# Altium footprint library Pattern No3d 20090609.PcbLib: 323 footprints (part 6 of 22)
Each footprint in its own frame and in the unit in brackets; x right, y up, seen from the top. Pads: shape width x height; smd on the part's side, far side on the other; paste and mask are expansions set on the pad; w line width, h text height; cw(c..) or ccw(c..) is an arc to the next point about the centre after c.
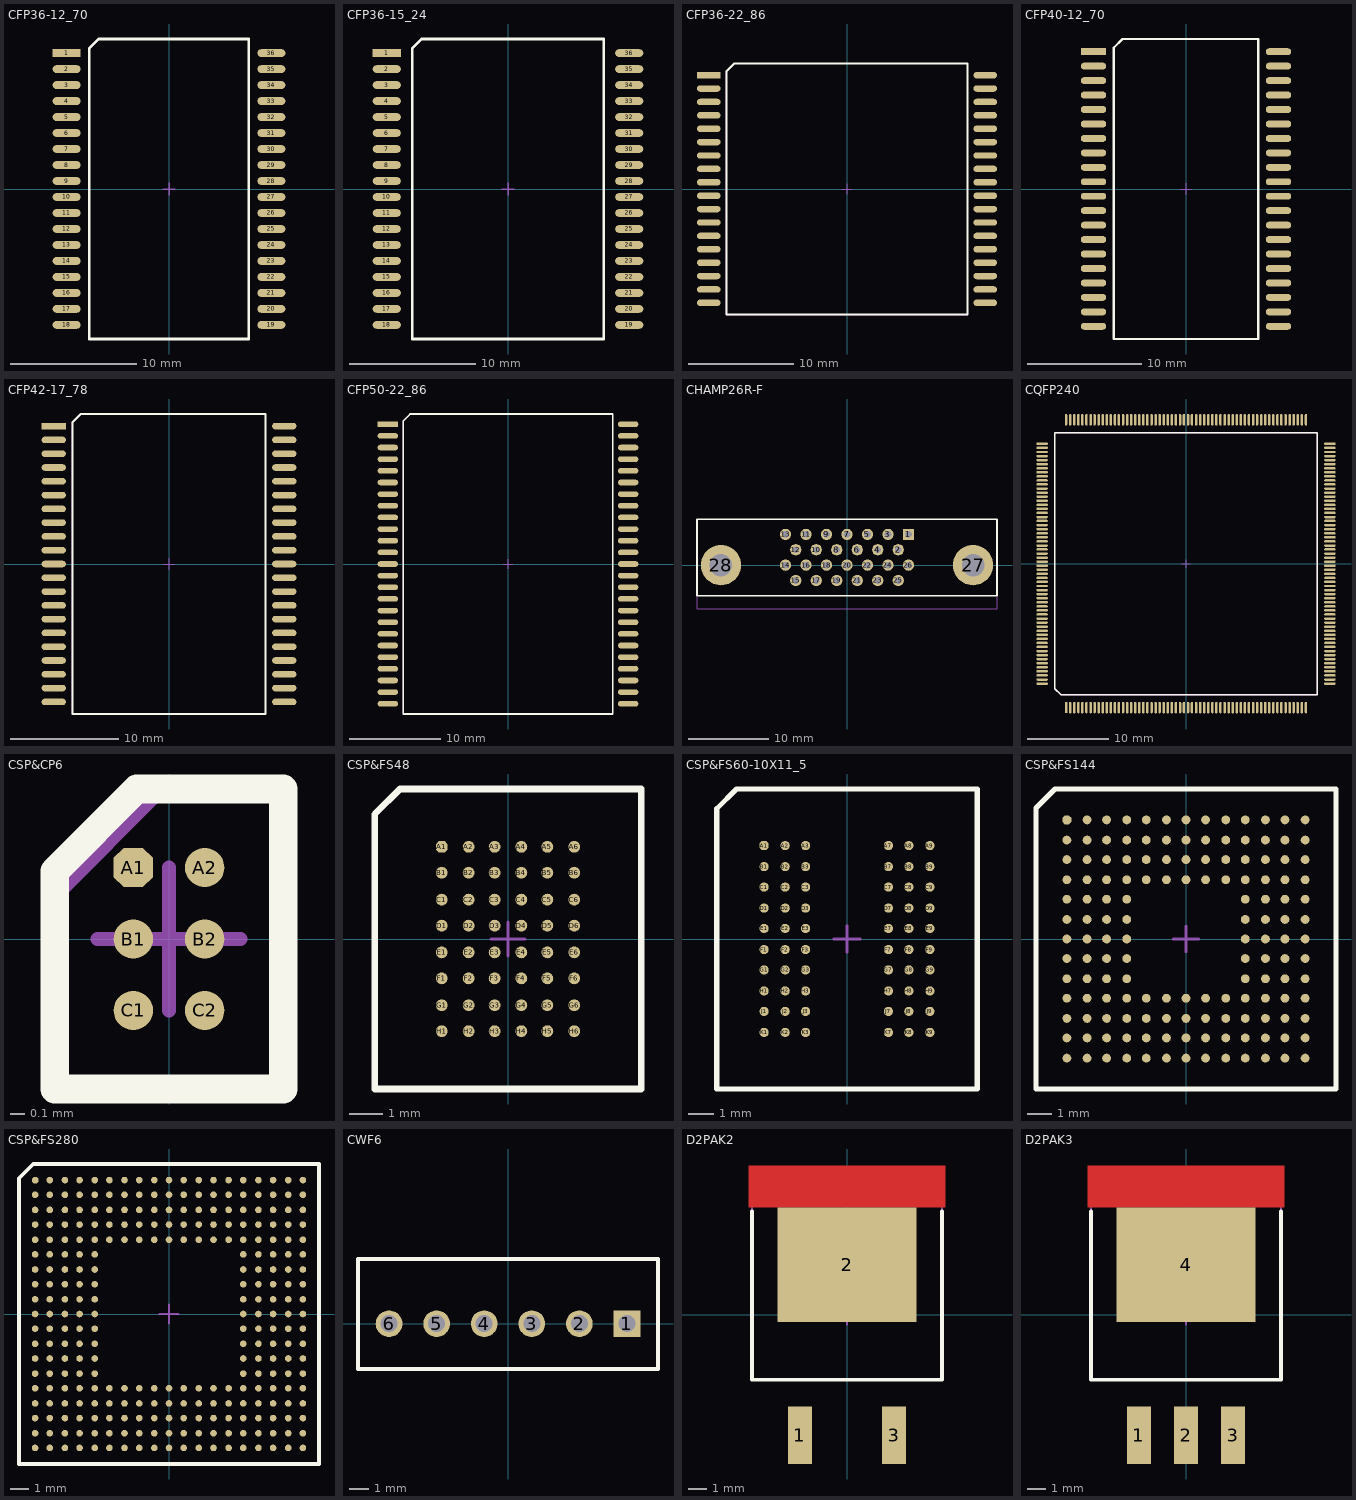
[diagram p5: the footprints below, top view; thin cyan lines are the x and y axes]

## CFP36-12_70 [mil] "IPC-SM-782A SMD Land Patterns.pdf (MO-020)"
pads (36):
  rect 88x24 smd mask+4: 1(-320,425)
  oval 88x24 smd mask+4: 2(-320,375) 3(-320,325) 4(-320,275) 5(-320,225) 6(-320,175) 7(-320,125) 8(-320,75) 9(-320,25) 10(-320,-25) 11(-320,-75) 12(-320,-125) 13(-320,-175) 14(-320,-225) 15(-320,-275) 16(-320,-325) 17(-320,-375) 18(-320,-425) 19(320,-425) 20(320,-375) 21(320,-325) 22(320,-275) 23(320,-225) 24(320,-175) 25(320,-125) 26(320,-75) 27(320,-25) 28(320,25) 29(320,75) 30(320,125) 31(320,175) 32(320,225) 33(320,275) 34(320,325) 35(320,375) 36(320,425)
Top Overlay:
  lines w8: -250,-469 -250,439 -220,469 250,469 250,-469 -250,-469
Mechanical 1:
  lines w4: -250,-469 -250,439 -220,469 250,469 250,-469 -250,-469
Mechanical 15:
  lines w4: -20,0 20,0 ; 0,-20 0,20

## CFP36-15_24 [mil] "IPC-SM-782A SMD Land Patterns.pdf (MO-021)"
pads (36):
  rect 88x24 smd mask+4: 1(-379,425)
  oval 88x24 smd mask+4: 2(-379,375) 3(-379,325) 4(-379,275) 5(-379,225) 6(-379,175) 7(-379,125) 8(-379,75) 9(-379,25) 10(-379,-25) 11(-379,-75) 12(-379,-125) 13(-379,-175) 14(-379,-225) 15(-379,-275) 16(-379,-325) 17(-379,-375) 18(-379,-425) 19(379,-425) 20(379,-375) 21(379,-325) 22(379,-275) 23(379,-225) 24(379,-175) 25(379,-125) 26(379,-75) 27(379,-25) 28(379,25) 29(379,75) 30(379,125) 31(379,175) 32(379,225) 33(379,275) 34(379,325) 35(379,375) 36(379,425)
Top Overlay:
  lines w8: -300,-469 300,-469 300,469 -270,469 -300,439 -300,-469
Mechanical 1:
  lines w4: -300,-469 300,-469 300,469 -270,469 -300,439 -300,-469
Mechanical 15:
  lines w4: -20,0 20,0 ; 0,-20 0,20

## CFP36-22_86 [mil] "IPC-SM-782A SMD Land Patterns.pdf (MO-023)"
pads (36):
  rect 88x24 smd mask+4: 1(-516,425)
  oval 88x24 smd mask+4: 2(-516,375) 3(-516,325) 4(-516,275) 5(-516,225) 6(-516,175) 7(-516,125) 8(-516,75) 9(-516,25) 10(-516,-25) 11(-516,-75) 12(-516,-125) 13(-516,-175) 14(-516,-225) 15(-516,-275) 16(-516,-325) 17(-516,-375) 18(-516,-425) 19(516,-425) 20(516,-375) 21(516,-325) 22(516,-275) 23(516,-225) 24(516,-175) 25(516,-125) 26(516,-75) 27(516,-25) 28(516,25) 29(516,75) 30(516,125) 31(516,175) 32(516,225) 33(516,275) 34(516,325) 35(516,375) 36(516,425)
Top Overlay:
  lines w8: -450,-469 -450,439 -420,469 450,469 450,-469 -450,-469
Mechanical 1:
  lines w4: -450,-469 -450,439 -420,469 450,469 450,-469 -450,-469
Mechanical 15:
  lines w4: -20,0 20,0 ; 0,-20 0,20

## CFP40-12_70 [mil] "IPC-SM-782A SMD Land Patterns.pdf (MO-020)"
pads (40):
  rect 88x24 smd mask+4: 1(-320,475)
  oval 88x24 smd mask+4: 2(-320,425) 3(-320,375) 4(-320,325) 5(-320,275) 6(-320,225) 7(-320,175) 8(-320,125) 9(-320,75) 10(-320,25) 11(-320,-25) 12(-320,-75) 13(-320,-125) 14(-320,-175) 15(-320,-225) 16(-320,-275) 17(-320,-325) 18(-320,-375) 19(-320,-425) 20(-320,-475) 21(320,-475) 22(320,-425) 23(320,-375) 24(320,-325) 25(320,-275) 26(320,-225) 27(320,-175) 28(320,-125) 29(320,-75) 30(320,-25) 31(320,25) 32(320,75) 33(320,125) 34(320,175) 35(320,225) 36(320,275) 37(320,325) 38(320,375) 39(320,425) 40(320,475)
Top Overlay:
  lines w8: -250,-519 -250,489 -220,519 250,519 250,-519 -250,-519
Mechanical 1:
  lines w4: -250,-519 -250,489 -220,519 250,519 250,-519 -250,-519
Mechanical 15:
  lines w4: -20,0 20,0 ; 0,-20 0,20

## CFP42-17_78 [mil] "IPC-SM-782A SMD Land Patterns.pdf (MO-022)"
pads (42):
  rect 88x24 smd mask+4: 1(-418,500)
  oval 88x24 smd mask+4: 2(-418,450) 3(-418,400) 4(-418,350) 5(-418,300) 6(-418,250) 7(-418,200) 8(-418,150) 9(-418,100) 10(-418,50) 11(-418,0) 12(-418,-50) 13(-418,-100) 14(-418,-150) 15(-418,-200) 16(-418,-250) 17(-418,-300) 18(-418,-350) 19(-418,-400) 20(-418,-450) 21(-418,-500) 22(418,-500) 23(418,-450) 24(418,-400) 25(418,-350) 26(418,-300) 27(418,-250) 28(418,-200) 29(418,-150) 30(418,-100) 31(418,-50) 32(418,0) 33(418,50) 34(418,100) 35(418,150) 36(418,200) 37(418,250) 38(418,300) 39(418,350) 40(418,400) 41(418,450) 42(418,500)
Top Overlay:
  lines w8: -350,-544 -350,514 -320,544 350,544 350,-544 -350,-544
Mechanical 1:
  lines w4: -350,-544 -350,514 -320,544 350,544 350,-544 -350,-544
Mechanical 15:
  lines w4: -20,0 20,0 ; 0,-20 0,20

## CFP50-22_86 [mil] "IPC-SM-782A SMD Land Patterns.pdf (MO-023)"
pads (50):
  rect 88x24 smd mask+4: 1(-516,600)
  oval 88x24 smd mask+4: 2(-516,550) 3(-516,500) 4(-516,450) 5(-516,400) 6(-516,350) 7(-516,300) 8(-516,250) 9(-516,200) 10(-516,150) 11(-516,100) 12(-516,50) 13(-516,0) 14(-516,-50) 15(-516,-100) 16(-516,-150) 17(-516,-200) 18(-516,-250) 19(-516,-300) 20(-516,-350) 21(-516,-400) 22(-516,-450) 23(-516,-500) 24(-516,-550) 25(-516,-600) 26(516,-600) 27(516,-550) 28(516,-500) 29(516,-450) 30(516,-400) 31(516,-350) 32(516,-300) 33(516,-250) 34(516,-200) 35(516,-150) 36(516,-100) 37(516,-50) 38(516,0) 39(516,50) 40(516,100) 41(516,150) 42(516,200) 43(516,250) 44(516,300) 45(516,350) 46(516,400) 47(516,450) 48(516,500) 49(516,550) 50(516,600)
Top Overlay:
  lines w8: -450,-644 450,-644 450,644 -420,644 -450,614 -450,-644
Mechanical 1:
  lines w4: -450,-644 450,-644 450,644 -420,644 -450,614 -450,-644
Mechanical 15:
  lines w4: -20,0 20,0 ; 0,-20 0,20

## CHAMP26R-F [mil] "http://docs-europe.electrocomponents.com/webdocs/002a/0900766b8002ae15.pdf (60 01 026 51)"
pads (28):
  rect 55x55 hole 32 mask+4: 1(300,150)
  round 55 hole 32 mask+4: 2(250,75) 3(200,150) 4(150,75) 5(100,150) 6(50,75) 7(0,150) 8(-50,75) 9(-100,150) 10(-150,75) 11(-200,150) 12(-250,75) 13(-300,150) 14(-300,0) 15(-250,-75) 16(-200,0) 17(-150,-75) 18(-100,0) 19(-50,-75) 20(0,0) 21(50,-75) 22(100,0) 23(150,-75) 24(200,0) 25(250,-75) 26(300,0)
  round 197 hole 110 mask+4: 27(615,0) 28(-615,0)
Top Overlay:
  lines w8: -732,-149 732,-149 732,224 -732,224 -732,-149
Mechanical 1:
  lines w4: -732,-213 732,-213 732,224 -732,224 -732,-213

## CQFP240 [mil] "http://www.analog.com/static/imported-files/packages/5795754713199QS240_HSD.pdf"
pads (240):
  rect 12x54 smd mask-1000: 1(-581,-697)
  oval 12x56 smd mask-1000: 2(-561,-697) 3(-541,-697) 4(-521,-697) 5(-502,-697) 6(-482,-697) 7(-462,-697) 8(-443,-697) 9(-423,-697) 10(-403,-697) 11(-384,-697) 12(-364,-697) 13(-344,-697) 14(-325,-697) 15(-305,-697) 16(-285,-697) 17(-266,-697) 18(-246,-697) 19(-226,-697) 20(-207,-697) 21(-187,-697) 22(-167,-697) 23(-147,-697) 24(-128,-697) 25(-108,-697) 26(-88,-697) 27(-69,-697) 28(-49,-697) 29(-29,-697) 30(-10,-697) 31(10,-697) 32(29,-697) 33(49,-697) 34(69,-697) 35(88,-697) 36(108,-697) 37(128,-697) 38(147,-697) 39(167,-697) 40(187,-697) 41(207,-697) 42(226,-697) 43(246,-697) 44(266,-697) 45(285,-697) 46(305,-697) 47(325,-697) 48(344,-697) 49(364,-697) 50(384,-697) 51(403,-697) 52(423,-697) 53(443,-697) 54(462,-697) 55(482,-697) 56(502,-697) 57(521,-697) 58(541,-697) 59(561,-697) 60(581,-697) 121(581,697) 122(561,697) 123(541,697) 124(521,697) 125(502,697) 126(482,697) 127(462,697) 128(443,697) 129(423,697) 130(403,697) 131(384,697) 132(364,697) 133(344,697) 134(325,697) 135(305,697) 136(285,697) 137(266,697) 138(246,697) 139(226,697) 140(207,697) 141(187,697) 142(167,697) 143(147,697) 144(128,697) 145(108,697) 146(88,697) 147(69,697) 148(49,697) 149(29,697) 150(10,697) 151(-10,697) 152(-29,697) 153(-49,697) 154(-69,697) 155(-88,697) 156(-108,697) 157(-128,697) 158(-147,697) 159(-167,697) 160(-187,697) 161(-207,697) 162(-226,697) 163(-246,697) 164(-266,697) 165(-285,697) 166(-305,697) 167(-325,697) 168(-344,697) 169(-364,697) 170(-384,697) 171(-403,697) 172(-423,697) 173(-443,697) 174(-462,697) 175(-482,697) 176(-502,697) 177(-521,697) 178(-541,697) 179(-561,697) 180(-581,697)
  oval 56x12 smd mask-1000: 61(697,-581) 62(697,-561) 63(697,-541) 64(697,-521) 65(697,-502) 66(697,-482) 67(697,-462) 68(697,-443) 69(697,-423) 70(697,-403) 71(697,-384) 72(697,-364) 73(697,-344) 74(697,-325) 75(697,-305) 76(697,-285) 77(697,-266) 78(697,-246) 79(697,-226) 80(697,-207) 81(697,-187) 82(697,-167) 83(697,-147) 84(697,-128) 85(697,-108) 86(697,-88) 87(697,-69) 88(697,-49) 89(697,-29) 90(697,-10) 91(697,10) 92(697,29) 93(697,49) 94(697,69) 95(697,88) 96(697,108) 97(697,128) 98(697,147) 99(697,167) 100(697,187) 101(697,207) 102(697,226) 103(697,246) 104(697,266) 105(697,285) 106(697,305) 107(697,325) 108(697,344) 109(697,364) 110(697,384) 111(697,403) 112(697,423) 113(697,443) 114(697,462) 115(697,482) 116(697,502) 117(697,521) 118(697,541) 119(697,561) 120(697,581) 181(-697,581) 182(-697,561) 183(-697,541) 184(-697,521) 185(-697,502) 186(-697,482) 187(-697,462) 188(-697,443) 189(-697,423) 190(-697,403) 191(-697,384) 192(-697,364) 193(-697,344) 194(-697,325) 195(-697,305) 196(-697,285) 197(-697,266) 198(-697,246) 199(-697,226) 200(-697,207) 201(-697,187) 202(-697,167) 203(-697,147) 204(-697,128) 205(-697,108) 206(-697,88) 207(-697,69) 208(-697,49) 209(-697,29) 210(-697,10) 211(-697,-10) 212(-697,-29) 213(-697,-49) 214(-697,-69) 215(-697,-88) 216(-697,-108) 217(-697,-128) 218(-697,-147) 219(-697,-167) 220(-697,-187) 221(-697,-207) 222(-697,-226) 223(-697,-246) 224(-697,-266) 225(-697,-285) 226(-697,-305) 227(-697,-325) 228(-697,-344) 229(-697,-364) 230(-697,-384) 231(-697,-403) 232(-697,-423) 233(-697,-443) 234(-697,-462) 235(-697,-482) 236(-697,-502) 237(-697,-521) 238(-697,-541) 239(-697,-561) 240(-697,-581)
Top Overlay:
  lines w8: -635,-605 -605,-635 635,-635 635,635 -635,635 -635,-605
Top Solder:
  drawing of 240 lines, arcs and shapes, not listed
Mechanical 1:
  lines w4: -635,-605 -605,-635 635,-635 635,635 -635,635 -635,-605
Mechanical 15:
  lines w4: -20,0 20,0 ; 0,-20 0,20

## CSP&CP6 [mil] "http://focus.ti.com.cn/cn/lit/ds/symlink/tmp105.pdf"
pads (6):
  oct 11x11 smd mask+2: A1(-10,20)
  round 11 smd mask+2: A2(10,20) B1(-10,0) B2(10,0) C1(-10,-20) C2(10,-20)
Top Overlay:
  lines w8: -32,-42 -32,19 -9,42 32,42 32,-42 -32,-42
Mechanical 1:
  lines w4: -32,-42 -32,12 -2,42 32,42 32,-42 -32,-42
Mechanical 15:
  lines w4: -20,0 20,0 ; 0,-20 0,20

## CSP&FS48 [mil] "http://www.xilinx.com/support/documentation/package_specs/fs48.pdf"
pads (48):
  oct 14x14 smd mask+3: A1(-79,110)
  round 14 smd mask+3: A2(-47,110) A3(-16,110) A4(16,110) A5(47,110) A6(79,110) B1(-79,79) B2(-47,79) B3(-16,79) B4(16,79) B5(47,79) B6(79,79) C1(-79,47) C2(-47,47) C3(-16,47) C4(16,47) C5(47,47) C6(79,47) D1(-79,16) D2(-47,16) D3(-16,16) D4(16,16) D5(47,16) D6(79,16) E1(-79,-16) E2(-47,-16) E3(-16,-16) E4(16,-16) E5(47,-16) E6(79,-16) F1(-79,-47) F2(-47,-47) F3(-16,-47) F4(16,-47) F5(47,-47) F6(79,-47) G1(-79,-79) G2(-47,-79) G3(-16,-79) G4(16,-79) G5(47,-79) G6(79,-79) H1(-79,-110) H2(-47,-110) H3(-16,-110) H4(16,-110) H5(47,-110) H6(79,-110)
Top Overlay:
  lines w8: -159,-179 159,-179 159,179 -129,179 -159,149 -159,-179
Mechanical 1:
  lines w4: -159,-179 159,-179 159,179 -129,179 -159,149 -159,-179
Mechanical 15:
  lines w4: -20,0 20,0 ; 0,-20 0,20

## CSP&FS60-10X11_5 [mil] "http://www.samsung.com/global/system/business/semiconductor/product/2007/6/11/MobileSDRAM/MobileDDRSDRAM/512Mbit/K4X51163PC/ds_k4x51163pc.pdf"
pads (60):
  oct 14x14 smd mask+3: A1(-126,142)
  round 14 smd mask+3: A2(-94,142) A3(-63,142) A7(63,142) A8(94,142) A9(126,142) B1(-126,110) B2(-94,110) B3(-63,110) B7(63,110) B8(94,110) B9(126,110) C1(-126,79) C2(-94,79) C3(-63,79) C7(63,79) C8(94,79) C9(126,79) D1(-126,47) D2(-94,47) D3(-63,47) D7(63,47) D8(94,47) D9(126,47) E1(-126,16) E2(-94,16) E3(-63,16) E7(63,16) E8(94,16) E9(126,16) F1(-126,-16) F2(-94,-16) F3(-63,-16) F7(63,-16) F8(94,-16) F9(126,-16) G1(-126,-47) G2(-94,-47) G3(-63,-47) G7(63,-47) G8(94,-47) G9(126,-47) H1(-126,-79) H2(-94,-79) H3(-63,-79) H7(63,-79) H8(94,-79) H9(126,-79) J1(-126,-110) J2(-94,-110) J3(-63,-110) J7(63,-110) J8(94,-110) J9(126,-110) K1(-126,-142) K2(-94,-142) K3(-63,-142) K7(63,-142) K8(94,-142) K9(126,-142)
Top Overlay:
  lines w8: -198,-228 198,-228 198,228 -168,228 -198,198 -198,-228
Mechanical 1:
  lines w4: -198,-228 198,-228 198,228 -168,228 -198,198 -198,-228
Mechanical 15:
  lines w4: -20,0 20,0 ; 0,-20 0,20

## CSP&FS144 [mil] "http://www.xilinx.com/support/documentation/package_specs/cs144.pdf"
pads (144):
  oct 14x14 smd mask+3: A1(-189,189)
  round 14 smd mask+3: A2(-157,189) A3(-126,189) A4(-94,189) A5(-63,189) A6(-31,189) A7(0,189) A8(31,189) A9(63,189) A10(94,189) A11(126,189) A12(157,189) A13(189,189) B1(-189,157) B2(-157,157) B3(-126,157) B4(-94,157) B5(-63,157) B6(-31,157) B7(0,157) B8(31,157) B9(63,157) B10(94,157) B11(126,157) B12(157,157) B13(189,157) C1(-189,126) C2(-157,126) C3(-126,126) C4(-94,126) C5(-63,126) C6(-31,126) C7(0,126) C8(31,126) C9(63,126) C10(94,126) C11(126,126) C12(157,126) C13(189,126) D1(-189,94) D2(-157,94) D3(-126,94) D4(-94,94) D5(-63,94) D6(-31,94) D7(0,94) D8(31,94) D9(63,94) D10(94,94) D11(126,94) D12(157,94) D13(189,94) E1(-189,63) E2(-157,63) E3(-126,63) E4(-94,63) E10(94,63) E11(126,63) E12(157,63) E13(189,63) F1(-189,31) F2(-157,31) F3(-126,31) F4(-94,31) F10(94,31) F11(126,31) F12(157,31) F13(189,31) G1(-189,0) G2(-157,0) G3(-126,0) G4(-94,0) G10(94,0) G11(126,0) G12(157,0) G13(189,0) H1(-189,-31) H2(-157,-31) H3(-126,-31) H4(-94,-31) H10(94,-31) H11(126,-31) H12(157,-31) H13(189,-31) J1(-189,-63) J2(-157,-63) J3(-126,-63) J4(-94,-63) J10(94,-63) J11(126,-63) J12(157,-63) J13(189,-63) K1(-189,-94) K2(-157,-94) K3(-126,-94) K4(-94,-94) K5(-63,-94) K6(-31,-94) K7(0,-94) K8(31,-94) K9(63,-94) K10(94,-94) K11(126,-94) K12(157,-94) K13(189,-94) L1(-189,-126) L2(-157,-126) L3(-126,-126) L4(-94,-126) L5(-63,-126) L6(-31,-126) L7(0,-126) L8(31,-126) L9(63,-126) L10(94,-126) L11(126,-126) L12(157,-126) L13(189,-126) M1(-189,-157) M2(-157,-157) M3(-126,-157) M4(-94,-157) M5(-63,-157) M6(-31,-157) M7(0,-157) M8(31,-157) M9(63,-157) M10(94,-157) M11(126,-157) M12(157,-157) M13(189,-157) N1(-189,-189) N2(-157,-189) N3(-126,-189) N4(-94,-189) N5(-63,-189) N6(-31,-189) N7(0,-189) N8(31,-189) N9(63,-189) N10(94,-189) N11(126,-189) N12(157,-189) N13(189,-189)
Top Overlay:
  lines w8: -238,-238 -238,208 -208,238 238,238 238,-238 -238,-238
Mechanical 1:
  lines w4: -238,-238 -238,208 -208,238 238,238 238,-238 -238,-238
Mechanical 15:
  lines w4: -20,0 20,0 ; 0,-20 0,20

## CSP&FS280 [mil] "http://www.xilinx.com/support/documentation/package_specs/cs280.pdf"
pads (280):
  oct 14x14 smd mask+3: A1(-283,283)
  round 14 smd mask+3: A2(-252,283) A3(-220,283) A4(-189,283) A5(-157,283) A6(-126,283) A7(-94,283) A8(-63,283) A9(-31,283) A10(0,283) A11(31,283) A12(63,283) A13(94,283) A14(126,283) A15(157,283) A16(189,283) A17(220,283) A18(252,283) A19(283,283) B1(-283,252) B2(-252,252) B3(-220,252) B4(-189,252) B5(-157,252) B6(-126,252) B7(-94,252) B8(-63,252) B9(-31,252) B10(0,252) B11(31,252) B12(63,252) B13(94,252) B14(126,252) B15(157,252) B16(189,252) B17(220,252) B18(252,252) B19(283,252) C1(-283,220) C2(-252,220) C3(-220,220) C4(-189,220) C5(-157,220) C6(-126,220) C7(-94,220) C8(-63,220) C9(-31,220) C10(0,220) C11(31,220) C12(63,220) C13(94,220) C14(126,220) C15(157,220) C16(189,220) C17(220,220) C18(252,220) C19(283,220) D1(-283,189) D2(-252,189) D3(-220,189) D4(-189,189) D5(-157,189) D6(-126,189) D7(-94,189) D8(-63,189) D9(-31,189) D10(0,189) D11(31,189) D12(63,189) D13(94,189) D14(126,189) D15(157,189) D16(189,189) D17(220,189) D18(252,189) D19(283,189) E1(-283,157) E2(-252,157) E3(-220,157) E4(-189,157) E5(-157,157) E6(-126,157) E7(-94,157) E8(-63,157) E9(-31,157) E10(0,157) E11(31,157) E12(63,157) E13(94,157) E14(126,157) E15(157,157) E16(189,157) E17(220,157) E18(252,157) E19(283,157) F1(-283,126) F2(-252,126) F3(-220,126) F4(-189,126) F5(-157,126) F15(157,126) F16(189,126) F17(220,126) F18(252,126) F19(283,126) G1(-283,94) G2(-252,94) G3(-220,94) G4(-189,94) G5(-157,94) G15(157,94) G16(189,94) G17(220,94) G18(252,94) G19(283,94) H1(-283,63) H2(-252,63) H3(-220,63) H4(-189,63) H5(-157,63) H15(157,63) H16(189,63) H17(220,63) H18(252,63) H19(283,63) J1(-283,31) J2(-252,31) J3(-220,31) J4(-189,31) J5(-157,31) J15(157,31) J16(189,31) J17(220,31) J18(252,31) J19(283,31) K1(-283,0) K2(-252,0) K3(-220,0) K4(-189,0) K5(-157,0) K15(157,0) K16(189,0) K17(220,0) K18(252,0) K19(283,0) L1(-283,-31) L2(-252,-31) L3(-220,-31) L4(-189,-31) L5(-157,-31) L15(157,-31) L16(189,-31) L17(220,-31) L18(252,-31) L19(283,-31) M1(-283,-63) M2(-252,-63) M3(-220,-63) M4(-189,-63) M5(-157,-63) M15(157,-63) M16(189,-63) M17(220,-63) M18(252,-63) M19(283,-63) N1(-283,-94) N2(-252,-94) N3(-220,-94) N4(-189,-94) N5(-157,-94) N15(157,-94) N16(189,-94) N17(220,-94) N18(252,-94) N19(283,-94) P1(-283,-126) P2(-252,-126) P3(-220,-126) P4(-189,-126) P5(-157,-126) P15(157,-126) P16(189,-126) P17(220,-126) P18(252,-126) P19(283,-126) R1(-283,-157) R2(-252,-157) R3(-220,-157) R4(-189,-157) R5(-157,-157) R6(-126,-157) R7(-94,-157) R8(-63,-157) R9(-31,-157) R10(0,-157) R11(31,-157) R12(63,-157) R13(94,-157) R14(126,-157) R15(157,-157) R16(189,-157) R17(220,-157) R18(252,-157) R19(283,-157) T1(-283,-189) T2(-252,-189) T3(-220,-189) T4(-189,-189) T5(-157,-189) T6(-126,-189) T7(-94,-189) T8(-63,-189) T9(-31,-189) T10(0,-189) T11(31,-189) T12(63,-189) T13(94,-189) T14(126,-189) T15(157,-189) T16(189,-189) T17(220,-189) T18(252,-189) T19(283,-189) U1(-283,-220) U2(-252,-220) U3(-220,-220) U4(-189,-220) U5(-157,-220) U6(-126,-220) U7(-94,-220) U8(-63,-220) U9(-31,-220) U10(0,-220) U11(31,-220) U12(63,-220) U13(94,-220) U14(126,-220) U15(157,-220) U16(189,-220) U17(220,-220) U18(252,-220) U19(283,-220) V1(-283,-252) V2(-252,-252) V3(-220,-252) V4(-189,-252) V5(-157,-252) V6(-126,-252) V7(-94,-252) V8(-63,-252) V9(-31,-252) V10(0,-252) V11(31,-252) V12(63,-252) V13(94,-252) V14(126,-252) V15(157,-252) V16(189,-252) V17(220,-252) V18(252,-252) V19(283,-252) W1(-283,-283) W2(-252,-283) W3(-220,-283) W4(-189,-283) W5(-157,-283) W6(-126,-283) W7(-94,-283) W8(-63,-283) W9(-31,-283) W10(0,-283) W11(31,-283) W12(63,-283) W13(94,-283) W14(126,-283) W15(157,-283) W16(189,-283) W17(220,-283) W18(252,-283) W19(283,-283)
Top Overlay:
  lines w8: -317,-317 -317,287 -287,317 317,317 317,-317 -317,-317
Mechanical 1:
  lines w4: -317,-317 -317,287 -287,317 317,317 317,-317 -317,-317
Mechanical 15:
  lines w4: -20,0 20,0 ; 0,-20 0,20

## CWF6 [mil] "http://www.connfly.com/uploadfiles/DS1069.pdf (Male V/T TYPE Position 6)"
pads (6):
  rect 55x55 hole 35 mask+4: 1(245,0)
  round 55 hole 35 mask+4: 2(147,0) 3(49,0) 4(-49,0) 5(-147,0) 6(-245,0)
Top Overlay:
  lines w8: -309,-93 -309,133 309,133 309,-93 -309,-93
Mechanical 1:
  lines w4: -309,-93 -309,133 309,133 309,-93 -309,-93

## D2PAK2 [mil] "http://www.nxp.com/acrobat_download/packages/SOT404.pdf"
pads (3):
  rect 52x122 smd paste-1000 mask+4: 1(-100,-256) 3(100,-256)
  rect 296x244 smd paste-1000 mask-1000: 2(0,107)
Top Layer:
  region: 209,229 209,317 -209,317 -209,229
Top Overlay:
  lines w8: -202,220 -202,-138 202,-138 202,220
Top Paste:
  region: 135,231 135,315 75,315 75,231
  region: 65,231 65,315 5,315 5,231
  region: -5,231 -5,315 -65,315 -65,231
  region: -75,231 -75,315 -135,315 -135,231
  region: -145,231 -145,315 -205,315 -205,231
  region: 205,231 205,315 145,315 145,231
  region: -79,170 -143,170 -143,110 -79,110
  region: -5,170 -69,170 -69,110 -5,110
  region: 69,170 5,170 5,110 69,110
  region: 143,170 79,170 79,110 143,110
  region: 143,49 79,49 79,-11 143,-11
  region: 69,49 5,49 5,-11 69,-11
  region: -5,49 -69,49 -69,-11 -5,-11
  region: -79,49 -143,49 -143,-11 -79,-11
  region: 76.5,-259.5 76.5,-314.5 123.5,-314.5 123.5,-259.5
  region: 76.5,-197.5 76.5,-252.5 123.5,-252.5 123.5,-197.5
  region: -123.5,-197.5 -123.5,-252.5 -76.5,-252.5 -76.5,-197.5
  region: -123.5,-259.5 -123.5,-314.5 -76.5,-314.5 -76.5,-259.5
Top Solder:
  region: 152,-19 152,225 213,225 213,321 -213,321 -213,225 -152,225 -152,-19
Mechanical 1:
  lines w4: -202,-138 -202,240 202,240 202,-138 -202,-138
Mechanical 15:
  lines w4: -20,0 20,0 ; 0,-20 0,20

## D2PAK3 [mil] "http://www.national.com/packaging/mkt/ts3b.pdf"
pads (4):
  rect 52x122 smd paste-1000 mask+4: 1(-100,-256) 2(0,-256) 3(100,-256)
  rect 296x244 smd paste-1000 mask-1000: 4(0,107)
Top Layer:
  region: 209,229 209,317 -209,317 -209,229
Top Overlay:
  lines w8: -202,220 -202,-138 202,-138 202,220
Top Paste:
  region: -23.5,-197.5 -23.5,-252.5 23.5,-252.5 23.5,-197.5
  region: -23.5,-259.5 -23.5,-314.5 23.5,-314.5 23.5,-259.5
  region: 135,231 135,315 75,315 75,231
  region: 65,231 65,315 5,315 5,231
  region: -5,231 -5,315 -65,315 -65,231
  region: -75,231 -75,315 -135,315 -135,231
  region: -145,231 -145,315 -205,315 -205,231
  region: 205,231 205,315 145,315 145,231
  region: -79,170 -143,170 -143,110 -79,110
  region: -5,170 -69,170 -69,110 -5,110
  region: 69,170 5,170 5,110 69,110
  region: 143,170 79,170 79,110 143,110
  region: 143,49 79,49 79,-11 143,-11
  region: 69,49 5,49 5,-11 69,-11
  region: -5,49 -69,49 -69,-11 -5,-11
  region: -79,49 -143,49 -143,-11 -79,-11
  region: 76.5,-259.5 76.5,-314.5 123.5,-314.5 123.5,-259.5
  region: 76.5,-197.5 76.5,-252.5 123.5,-252.5 123.5,-197.5
  region: -123.5,-197.5 -123.5,-252.5 -76.5,-252.5 -76.5,-197.5
  region: -123.5,-259.5 -123.5,-314.5 -76.5,-314.5 -76.5,-259.5
Top Solder:
  region: 152,-19 152,225 213,225 213,321 -213,321 -213,225 -152,225 -152,-19
Mechanical 1:
  lines w4: -202,-138 -202,240 202,240 202,-138 -202,-138
Mechanical 15:
  lines w4: -20,0 20,0 ; 0,-20 0,20